# Altium integrated library Maxim Analog Filters.IntLib: 555 symbols (part 10 of 26)
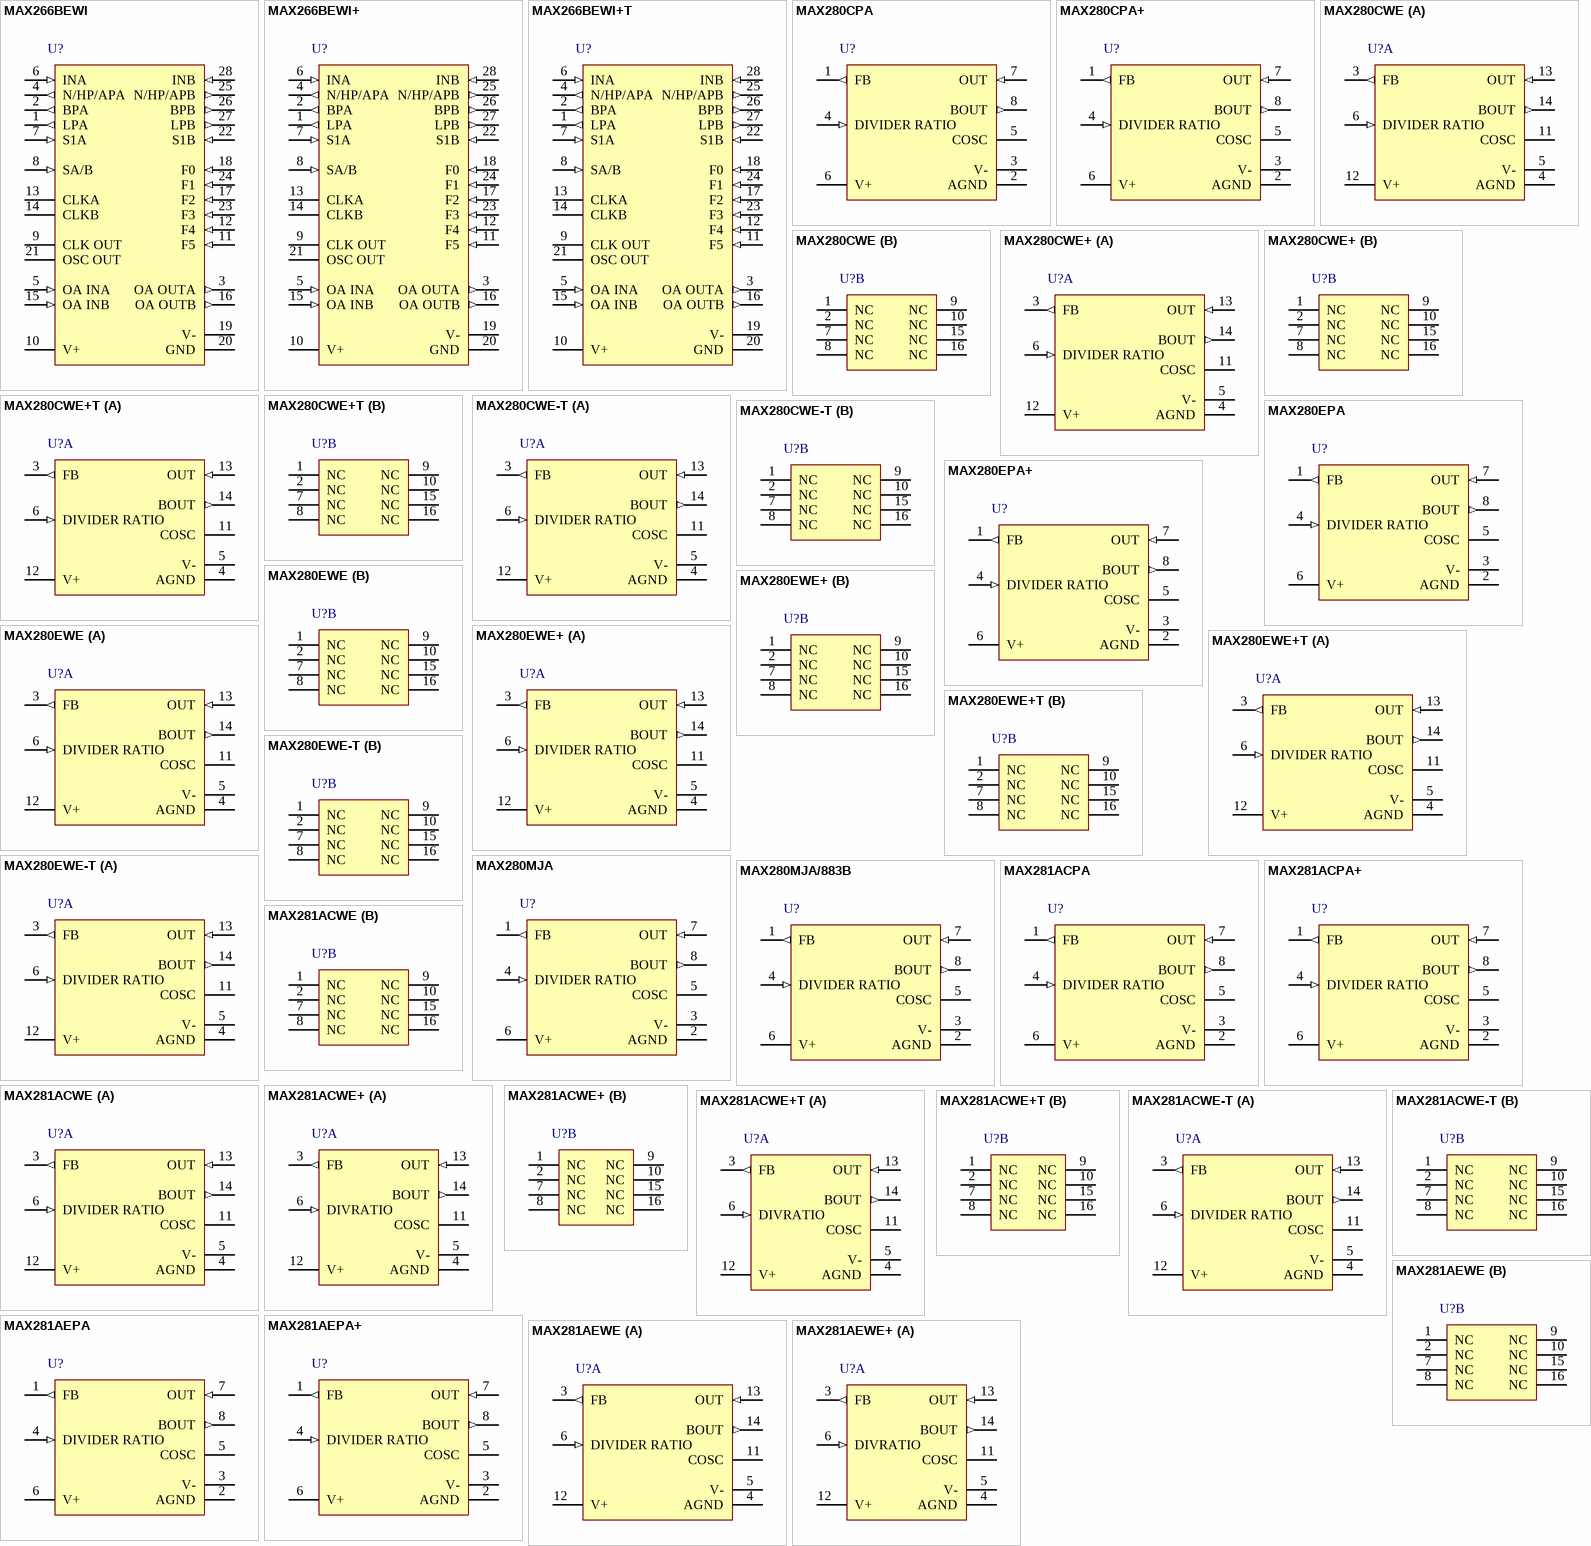
[diagram p26: symbols MAX266BEWI to MAX281AEWE+]

## MAX281ACWE+
designator U?
5th-Order Switched Capacitor Lowpass Filter, Bessel, Zero-Error with Zero DC-Offset, 0 to 70 degC, 16-Pin SOIC (W16+2), Pb-Free; Generic Part Number: MAX281; PartNumber: MAX281ACWE+; Filter Sections: 1; Order Per Filter Section: 5; Program Method: Clock; DatasheetVersion: Rev. 0; PackageVersion: Rev. F, 10/2012; PackageReference: W16+2; PackageDescription: 16-Pin Small-Outline IC, Wide (0.3in) (W16+2), Body 10.3 x 7.5 mm, Pitch 1.27 mm; Supplier 1: Digi-Key; Supplier Part Number 1: MAX281ACWE+-ND; Supplier 2: Mouser; Supplier Part Number 2: 700-MAX281ACWE; Filter Characteristic: Bessel; Filter Class: Switched Cap; Filter Type: Lowpass; RoHS: Pb-Free; Mounting Technology: Surface Mount; Code_JEDEC: MS013; ComponentLink1Description: Manufacturer URL; ComponentLink1URL: http://www.maximintegrated.com/; ComponentLink2Description: Datasheet; ComponentLink2URL: http://datasheets.maximintegrated.com/en/ds/MAX281.pdf; ComponentLink3Description: Package Specification; ComponentLink3URL: http://pdfserv.maximintegrated.com/package_dwgs/21-0042.PDF
footprint MAXM-W16+2_N (SOIC, 16-Leads, Body 10.3x7.5mm, Pitch 1.27mm, IPC Medium Density)
footprint MAXM-W16+2_L (SOIC, 16-Leads, Body 10.3x7.5mm, Pitch 1.27mm, IPC High Density)
footprint MAXM-W16+2_M (SOIC, 16-Leads, Body 10.3x7.5mm, Pitch 1.27mm, IPC Low Density)
part A pins: 3 FB (out) "External capacitor couples to the chip through this pin", 4 AGND (power) "Ground.Connect to system ground for dual-supply operation or mid-supply for single operation.This pin should be well bypassed using a large capacitor for single-supply operation", 5 V- (power) "Negative Supply Voltage", 6 DIVRATIO (in) "Strapped to select clock to cutoff ratio (external clock), or interal divider ratio (internal oscillator)", 11 COSC "Clock input pin for external clock applications. For internal clock operation, connect an external capacitor between this pin and V-", 12 V+ (power) "Positive Supply Voltage", 13 OUT (in) "Input to on-chip buffer amplifier", 14 BOUT (out) "Output of buffer amplifier"
part B pins: 1 NC, 2 NC, 7 NC, 8 NC, 9 NC, 10 NC, 15 NC, 16 NC

## MAX281ACWE+T
designator U?
5th-Order Switched Capacitor Lowpass Filter, Bessel, Zero-Error with Zero DC-Offset, 0 to 70 degC, 16-Pin SOIC (W16+2), Pb-Free, Tape and Reel; Generic Part Number: MAX281; PartNumber: MAX281ACWE+T; Filter Sections: 1; Order Per Filter Section: 5; Program Method: Clock; DatasheetVersion: Rev. 0; PackageVersion: Rev. F, 10/2012; PackageReference: W16+2; PackageDescription: 16-Pin Small-Outline IC, Wide (0.3in) (W16+2), Body 10.3 x 7.5 mm, Pitch 1.27 mm; Supplier 1: Digi-Key; Supplier Part Number 1: MAX281ACWE+T-ND; Supplier 2: Mouser; Supplier Part Number 2: 700-MAX281ACWET; Filter Characteristic: Bessel; Filter Class: Switched Cap; Filter Type: Lowpass; Packing: Tape and Reel; RoHS: Pb-Free; Mounting Technology: Surface Mount; Code_JEDEC: MS013; ComponentLink1Description: Manufacturer URL; ComponentLink1URL: http://www.maximintegrated.com/; ComponentLink2Description: Datasheet; ComponentLink2URL: http://datasheets.maximintegrated.com/en/ds/MAX281.pdf; ComponentLink3Description: Package Specification; ComponentLink3URL: http://pdfserv.maximintegrated.com/package_dwgs/21-0042.PDF
footprint MAXM-W16+2_N (SOIC, 16-Leads, Body 10.3x7.5mm, Pitch 1.27mm, IPC Medium Density)
footprint MAXM-W16+2_L (SOIC, 16-Leads, Body 10.3x7.5mm, Pitch 1.27mm, IPC High Density)
footprint MAXM-W16+2_M (SOIC, 16-Leads, Body 10.3x7.5mm, Pitch 1.27mm, IPC Low Density)
part A pins: 3 FB (out) "External capacitor couples to the chip through this pin", 4 AGND (power) "Ground.Connect to system ground for dual-supply operation or mid-supply for single operation.This pin should be well bypassed using a large capacitor for single-supply operation", 5 V- (power) "Negative Supply Voltage", 6 DIVRATIO (in) "Strapped to select clock to cutoff ratio (external clock), or interal divider ratio (internal oscillator)", 11 COSC "Clock input pin for external clock applications. For internal clock operation, connect an external capacitor between this pin and V-", 12 V+ (power) "Positive Supply Voltage", 13 OUT (in) "Input to on-chip buffer amplifier", 14 BOUT (out) "Output of buffer amplifier"
part B pins: 1 NC, 2 NC, 7 NC, 8 NC, 9 NC, 10 NC, 15 NC, 16 NC

## MAX281ACWE-T
designator U?
5th-Order Switched Capacitor Lowpass Filter, Bessel, Zero-Error with Zero DC-Offset, 0 to 70 degC, 16-Pin SOIC (W16-2), Tape and Reel; Generic Part Number: MAX281; PartNumber: MAX281ACWE-T; Filter Sections: 1; Order Per Filter Section: 5; Program Method: Clock; DatasheetVersion: Rev. 0; PackageVersion: Rev. F, 10/2012; PackageReference: W16-2; PackageDescription: 16-Pin Small-Outline IC, Wide (0.3in) (W16-2), Body 10.3 x 7.5 mm, Pitch 1.27 mm; Supplier 1: Mouser; Supplier Part Number 1: N/A; Filter Characteristic: Bessel; Filter Class: Switched Cap; Filter Type: Lowpass; Packing: Tape and Reel; Mounting Technology: Surface Mount; Code_JEDEC: MS013; ComponentLink1Description: Manufacturer URL; ComponentLink1URL: http://www.maximintegrated.com/; ComponentLink2Description: Datasheet; ComponentLink2URL: http://datasheets.maximintegrated.com/en/ds/MAX281.pdf; ComponentLink3Description: Package Specification; ComponentLink3URL: http://pdfserv.maximintegrated.com/package_dwgs/21-0042.PDF
footprint MAXM-W16-2_N (SOIC, 16-Leads, Body 10.3x7.5mm, Pitch 1.27mm, IPC Medium Density)
footprint MAXM-W16-2_L (SOIC, 16-Leads, Body 10.3x7.5mm, Pitch 1.27mm, IPC High Density)
footprint MAXM-W16-2_M (SOIC, 16-Leads, Body 10.3x7.5mm, Pitch 1.27mm, IPC Low Density)
part A pins: 3 FB (out) "External capacitor couples to the chip through this pin.", 4 AGND (power) "Ground. Connect to system ground for dual supply operation or mid-supply for single operarion. This pin should be well bypassed using a large capacitor for single supply operation.", 5 V- (power) "Negative supply volatage", 6 DIVIDER RATIO (in) "The oscillator frequency is divided by either 1, 2 or 4 depending upon the voltage on this pin. This in turn gives a clock to cutoff frequency ratio when tied to V+ of 100:1; when tied to GND of 200:1; and when tied to V- of (See Datasheet)", 11 COSC "Clock input pin for external clock applications.For internal clock operation connect an external capacitor between this pin and V-.", 12 V+ (power) "Positive supply volatage", 13 OUT (in) "Input to on-chip buffer amplifer", 14 BOUT (out) "Output of buffer amplifier"
part B pins: 1 NC, 2 NC, 7 NC, 8 NC, 9 NC, 10 NC, 15 NC, 16 NC

## MAX281AEPA
designator U?
5th-Order Switched Capacitor Lowpass Filter, Bessel, Zero-Error with Zero DC-Offset, -40 to 85 degC, 8-Pin DIP (P8-3); Generic Part Number: MAX281; PartNumber: MAX281AEPA; Filter Sections: 1; Order Per Filter Section: 5; Program Method: Clock; DatasheetVersion: Rev. 0; PackageVersion: Rev. E, 04/2011; PackageReference: P8-3; PackageDescription: 8-Pin Plastic Dual-In-Line, Narrow (0.3in) (P8-3), Body 9.375 x 6.985 mm, Pitch 2.54 mm; Supplier 1: Mouser; Supplier Part Number 1: N/A; Filter Characteristic: Bessel; Filter Class: Switched Cap; Filter Type: Lowpass; Mounting Technology: Through Hole; Code_JEDEC: MO-058AB; ComponentLink1Description: Manufacturer URL; ComponentLink1URL: http://www.maximintegrated.com/; ComponentLink2Description: Datasheet; ComponentLink2URL: http://datasheets.maximintegrated.com/en/ds/MAX281.pdf; ComponentLink3Description: Package Specification; ComponentLink3URL: http://pdfserv.maximintegrated.com/package_dwgs/21-0043.PDF
footprint MAXM-P8-3 (DIP, 8-Leads, Body 9.375x6.985mm, Pitch 2.54mm)
pins: 1 FB (out) "External capacitor couples to the chip through this pin", 2 AGND (power) "Ground. Connect to system ground for dual-supply operation or mid-supply for single operation. This pin should be well bypassed using a large capacitor for single-supply operation.", 3 V- (power) "Negative Supply Voltage", 4 DIVIDER RATIO (in) "Strapped to select clock to cutoff ratio (external clock), or internal divider ratio (internal oscillator)", 5 COSC "Clock input pin for external clock applications. For internal clock operation, connect an external capacitor between this pin and V-.", 6 V+ (power) "Positive Supply Voltage", 7 OUT (in) "Input to on-chip buffer amplifier", 8 BOUT (out) "Output of buffer amplifier"

## MAX281AEPA+
designator U?
5th-Order Switched Capacitor Lowpass Filter, Bessel, Zero-Error with Zero DC-Offset, -40 to 85 degC, 8-Pin DIP (P8+3), Pb-Free; Generic Part Number: MAX281; PartNumber: MAX281AEPA+; Filter Sections: 1; Order Per Filter Section: 5; Program Method: Clock; DatasheetVersion: Rev. 0; PackageVersion: Rev. E, 04/2011; PackageReference: P8+3; PackageDescription: 8-Pin Plastic Dual-In-Line, Narrow (0.3in) (P8+3), Body 9.375 x 6.985 mm, Pitch 2.54 mm; Supplier 1: Digi-Key; Supplier Part Number 1: MAX281AEPA+-ND; Supplier 2: Mouser; Supplier Part Number 2: 700-MAX281AEPA; Filter Characteristic: Bessel; Filter Class: Switched Cap; Filter Type: Lowpass; RoHS: Pb-Free; Mounting Technology: Through Hole; Code_JEDEC: MO-058AB; ComponentLink1Description: Manufacturer URL; ComponentLink1URL: http://www.maximintegrated.com/; ComponentLink2Description: Datasheet; ComponentLink2URL: http://datasheets.maximintegrated.com/en/ds/MAX281.pdf; ComponentLink3Description: Package Specification; ComponentLink3URL: http://pdfserv.maximintegrated.com/package_dwgs/21-0043.PDF
footprint MAXM-P8+3 (DIP, 8-Leads, Body 9.375x6.985mm, Pitch 2.54mm)
pins: 1 FB (out) "External capacitor couples to the chip through this pin", 2 AGND (power) "Ground. Connect to system ground for dual-supply operation or mid-supply for single operation. This pin should be well bypassed using a largr capacitor for single-supply operation.", 3 V- (power) "Negative Supply Voltage", 4 DIVIDER RATIO (in) "Strapped to select clock to cutoff ratio (external clock), or internal divider ratio (internal oscillator)", 5 COSC "Clock input pin for external clock applications. For internal clock operation, connect an external capacitor between this pin and V-.", 6 V+ (power) "Positive Supply Voltage", 7 OUT (in) "Input to on-chip buffer amplifier", 8 BOUT (out) "Output of buffer amplifier"

## MAX281AEWE
designator U?
5th-Order Switched Capacitor Lowpass Filter, Bessel, Zero-Error with Zero DC-Offset, -40 to 85 degC, 16-Pin SOIC (W16-2); Generic Part Number: MAX281; PartNumber: MAX281AEWE; Filter Sections: 1; Order Per Filter Section: 5; Program Method: Clock; DatasheetVersion: Rev. 0; PackageVersion: Rev. F, 10/2012; PackageReference: W16-2; PackageDescription: 16-Pin Small-Outline IC, Wide (0.3in) (W16-2), Body 10.3 x 7.5 mm, Pitch 1.27 mm; Supplier 1: Mouser; Supplier Part Number 1: N/A; Filter Characteristic: Bessel; Filter Class: Switched Cap; Filter Type: Lowpass; Mounting Technology: Surface Mount; Code_JEDEC: MS013; ComponentLink1Description: Manufacturer URL; ComponentLink1URL: http://www.maximintegrated.com/; ComponentLink2Description: Datasheet; ComponentLink2URL: http://datasheets.maximintegrated.com/en/ds/MAX281.pdf; ComponentLink3Description: Package Specification; ComponentLink3URL: http://pdfserv.maximintegrated.com/package_dwgs/21-0042.PDF
footprint MAXM-W16-2_N (SOIC, 16-Leads, Body 10.3x7.5mm, Pitch 1.27mm, IPC Medium Density)
footprint MAXM-W16-2_L (SOIC, 16-Leads, Body 10.3x7.5mm, Pitch 1.27mm, IPC High Density)
footprint MAXM-W16-2_M (SOIC, 16-Leads, Body 10.3x7.5mm, Pitch 1.27mm, IPC Low Density)
part A pins: 3 FB (out) "External capacitor couples to the chip through this pin.", 4 AGND (power) "Ground. Connect to system ground for dual supply operation or mid-supply for single operarion. This pin should be well bypassed using a large capacitor for single supply operation.", 5 V- (power) "Negative supply volatage", 6 DIVIDER RATIO (in) "The oscillator frequency is divided by either 1, 2 or 4 depending upon the voltage on this pin. This in turn gives a clock to cutoff frequency ratio when tied to V+ of 100:1; when tied to GND of 200:1; and when tied to V- of (See Datasheet)", 11 COSC "Clock input pin for external clock applications.For internal clock operation connect an external capacitor between this pin and V-.", 12 V+ (power) "Positive supply volatage", 13 OUT (in) "Input to on-chip buffer amplifer", 14 BOUT (out) "Output of buffer amplifier"
part B pins: 1 NC, 2 NC, 7 NC, 8 NC, 9 NC, 10 NC, 15 NC, 16 NC

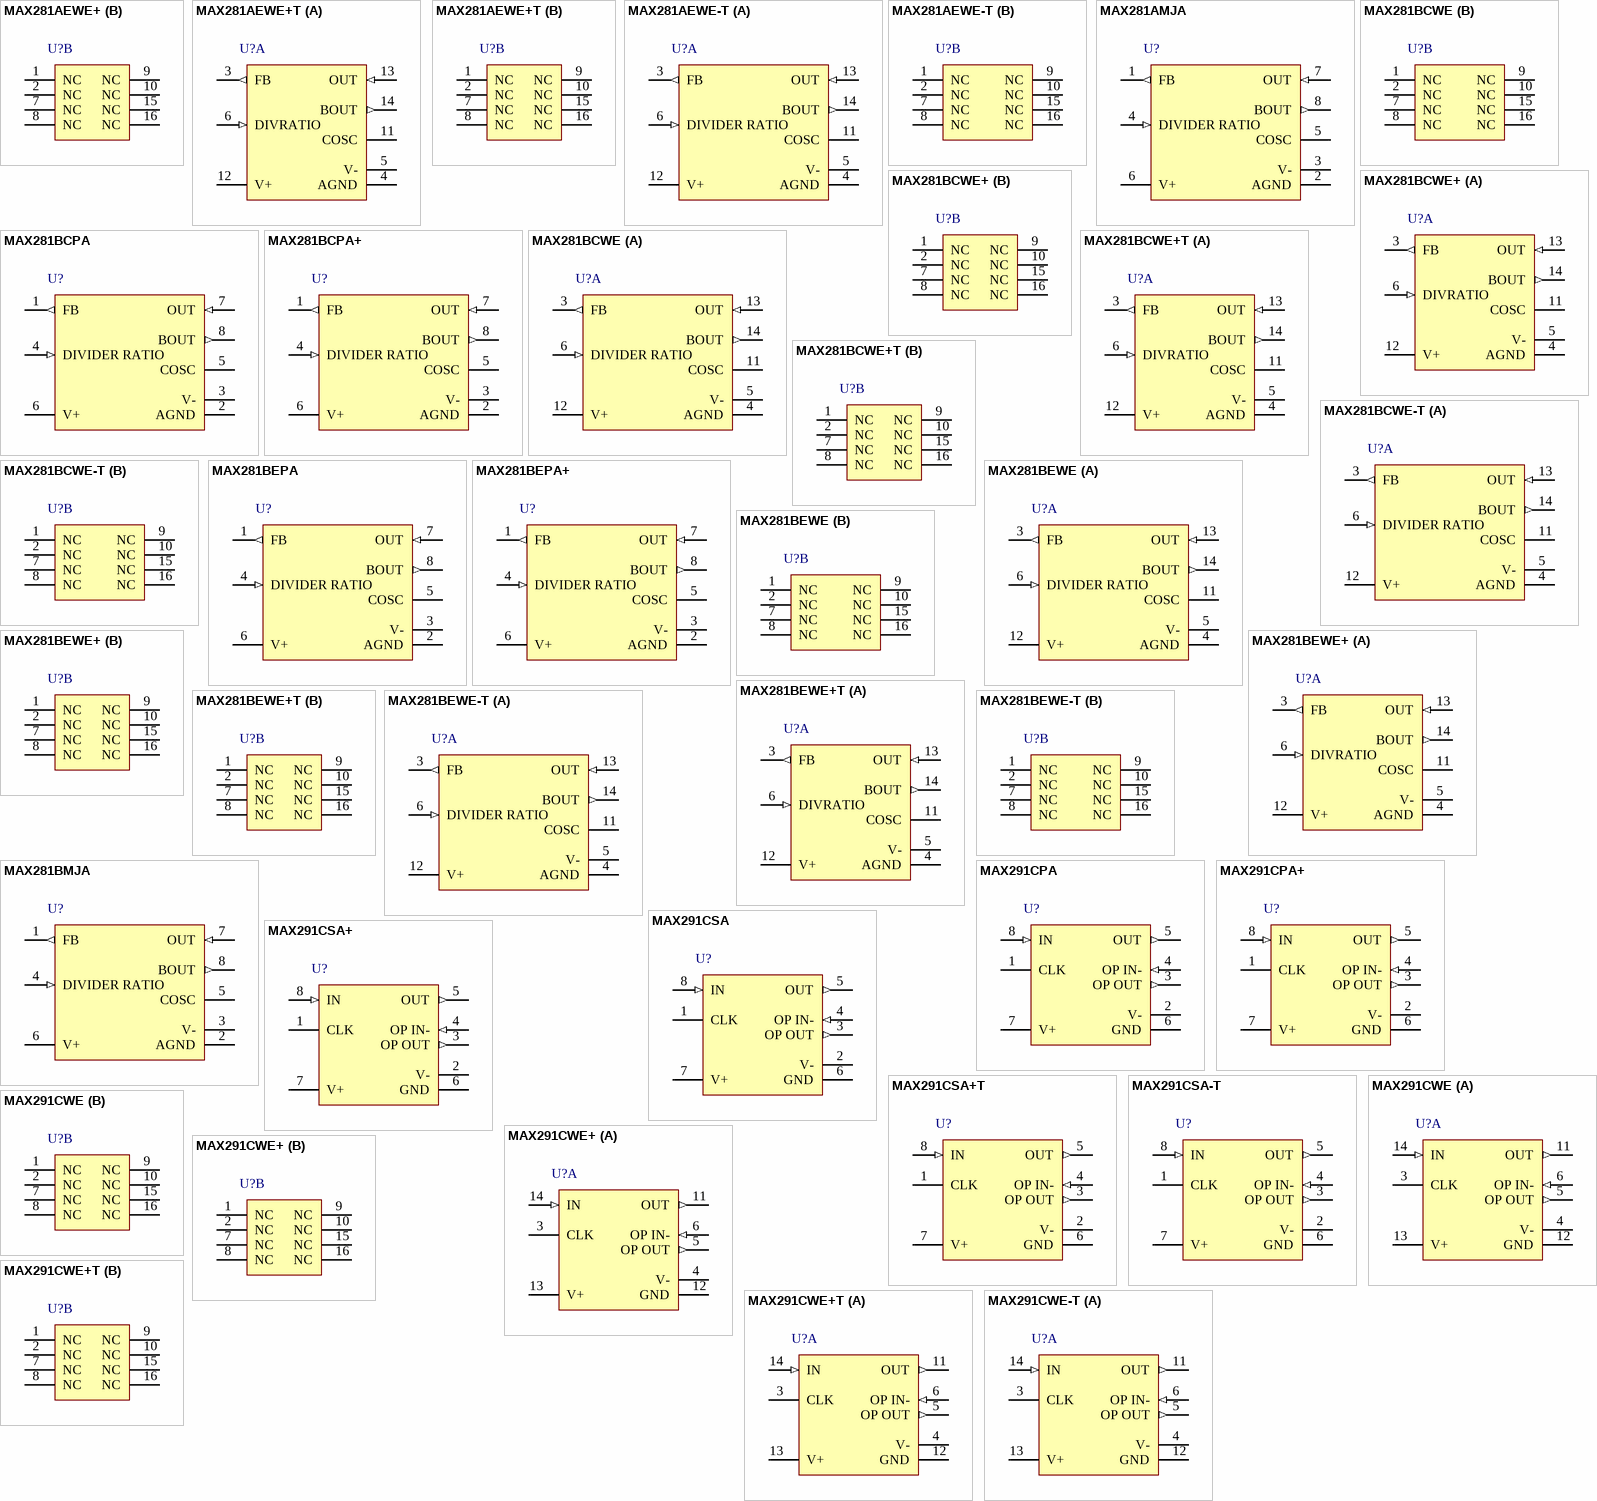
[diagram p7: symbols MAX281AEWE+ to MAX291CWE-T]

## MAX281AEWE+
designator U?
5th-Order Switched Capacitor Lowpass Filter, Bessel, Zero-Error with Zero DC-Offset, -40 to 85 degC, 16-Pin SOIC (W16+2), Pb-Free; Generic Part Number: MAX281; PartNumber: MAX281AEWE+; Filter Sections: 1; Order Per Filter Section: 5; Program Method: Clock; DatasheetVersion: Rev. 0; PackageVersion: Rev. F, 10/2012; PackageReference: W16+2; PackageDescription: 16-Pin Small-Outline IC, Wide (0.3in) (W16+2), Body 10.3 x 7.5 mm, Pitch 1.27 mm; Supplier 1: Digi-Key; Supplier Part Number 1: MAX281AEWE+-ND; Supplier 2: Farnell; Supplier Part Number 2: 1550454; Supplier 3: Newark; Supplier Part Number 3: 99K3153; Supplier 4: Mouser; Supplier Part Number 4: 700-MAX281AEWE; Filter Characteristic: Bessel; Filter Class: Switched Cap; Filter Type: Lowpass; RoHS: Pb-Free; Mounting Technology: Surface Mount; Code_JEDEC: MS013; ComponentLink1Description: Manufacturer URL; ComponentLink1URL: http://www.maximintegrated.com/; ComponentLink2Description: Datasheet; ComponentLink2URL: http://datasheets.maximintegrated.com/en/ds/MAX281.pdf; ComponentLink3Description: Package Specification; ComponentLink3URL: http://pdfserv.maximintegrated.com/package_dwgs/21-0042.PDF
footprint MAXM-W16+2_N (SOIC, 16-Leads, Body 10.3x7.5mm, Pitch 1.27mm, IPC Medium Density)
footprint MAXM-W16+2_L (SOIC, 16-Leads, Body 10.3x7.5mm, Pitch 1.27mm, IPC High Density)
footprint MAXM-W16+2_M (SOIC, 16-Leads, Body 10.3x7.5mm, Pitch 1.27mm, IPC Low Density)
part A pins: 3 FB (out) "External capacitor couples to the chip through this pin", 4 AGND (power) "Ground.Connect to system ground for dual-supply operation or mid-supply for single operation.This pin should be well bypassed using a large capacitor for single-supply operation", 5 V- (power) "Negative Supply Voltage", 6 DIVRATIO (in) "Strapped to select clock to cutoff ratio (external clock), or interal divider ratio (internal oscillator)", 11 COSC "Clock input pin for external clock applications. For internal clock operation, connect an external capacitor between this pin and V-", 12 V+ (power) "Positive Supply Voltage", 13 OUT (in) "Input to on-chip buffer amplifier", 14 BOUT (out) "Output of buffer amplifier"
part B pins: 1 NC, 2 NC, 7 NC, 8 NC, 9 NC, 10 NC, 15 NC, 16 NC

## MAX281AEWE+T
designator U?
5th-Order Switched Capacitor Lowpass Filter, Bessel, Zero-Error with Zero DC-Offset, -40 to 85 degC, 16-Pin SOIC (W16+2), Pb-Free, Tape and Reel; Generic Part Number: MAX281; PartNumber: MAX281AEWE+T; Filter Sections: 1; Order Per Filter Section: 5; Program Method: Clock; DatasheetVersion: Rev. 0; PackageVersion: Rev. F, 10/2012; PackageReference: W16+2; PackageDescription: 16-Pin Small-Outline IC, Wide (0.3in) (W16+2), Body 10.3 x 7.5 mm, Pitch 1.27 mm; Supplier 1: Digi-Key; Supplier Part Number 1: MAX281AEWE+T-ND; Supplier 2: Mouser; Supplier Part Number 2: 700-MAX281AEWET; Filter Characteristic: Bessel; Filter Class: Switched Cap; Filter Type: Lowpass; Packing: Tape and Reel; RoHS: Pb-Free; Mounting Technology: Surface Mount; Code_JEDEC: MS013; ComponentLink1Description: Manufacturer URL; ComponentLink1URL: http://www.maximintegrated.com/; ComponentLink2Description: Datasheet; ComponentLink2URL: http://datasheets.maximintegrated.com/en/ds/MAX281.pdf; ComponentLink3Description: Package Specification; ComponentLink3URL: http://pdfserv.maximintegrated.com/package_dwgs/21-0042.PDF
footprint MAXM-W16+2_N (SOIC, 16-Leads, Body 10.3x7.5mm, Pitch 1.27mm, IPC Medium Density)
footprint MAXM-W16+2_L (SOIC, 16-Leads, Body 10.3x7.5mm, Pitch 1.27mm, IPC High Density)
footprint MAXM-W16+2_M (SOIC, 16-Leads, Body 10.3x7.5mm, Pitch 1.27mm, IPC Low Density)
part A pins: 3 FB (out) "External capacitor couples to the chip through this pin", 4 AGND (power) "Ground.Connect to system ground for dual-supply operation or mid-supply for single operation.This pin should be well bypassed using a large capacitor for single-supply operation", 5 V- (power) "Negative Supply Voltage", 6 DIVRATIO (in) "Strapped to select clock to cutoff ratio (external clock), or interal divider ratio (internal oscillator)", 11 COSC "Clock input pin for external clock applications. For internal clock operation, connect an external capacitor between this pin and V-", 12 V+ (power) "Positive Supply Voltage", 13 OUT (in) "Input to on-chip buffer amplifier", 14 BOUT (out) "Output of buffer amplifier"
part B pins: 1 NC, 2 NC, 7 NC, 8 NC, 9 NC, 10 NC, 15 NC, 16 NC

## MAX281AEWE-T
designator U?
5th-Order Switched Capacitor Lowpass Filter, Bessel, Zero-Error with Zero DC-Offset, -40 to 85 degC, 16-Pin SOIC (W16-2), Tape and Reel; Generic Part Number: MAX281; PartNumber: MAX281AEWE-T; Filter Sections: 1; Order Per Filter Section: 5; Program Method: Clock; DatasheetVersion: Rev. 0; PackageVersion: Rev. F, 10/2012; PackageReference: W16-2; PackageDescription: 16-Pin Small-Outline IC, Wide (0.3in) (W16-2), Body 10.3 x 7.5 mm, Pitch 1.27 mm; Supplier 1: Mouser; Supplier Part Number 1: N/A; Filter Characteristic: Bessel; Filter Class: Switched Cap; Filter Type: Lowpass; Packing: Tape and Reel; Mounting Technology: Surface Mount; Code_JEDEC: MS013; ComponentLink1Description: Manufacturer URL; ComponentLink1URL: http://www.maximintegrated.com/; ComponentLink2Description: Datasheet; ComponentLink2URL: http://datasheets.maximintegrated.com/en/ds/MAX281.pdf; ComponentLink3Description: Package Specification; ComponentLink3URL: http://pdfserv.maximintegrated.com/package_dwgs/21-0042.PDF
footprint MAXM-W16-2_N (SOIC, 16-Leads, Body 10.3x7.5mm, Pitch 1.27mm, IPC Medium Density)
footprint MAXM-W16-2_L (SOIC, 16-Leads, Body 10.3x7.5mm, Pitch 1.27mm, IPC High Density)
footprint MAXM-W16-2_M (SOIC, 16-Leads, Body 10.3x7.5mm, Pitch 1.27mm, IPC Low Density)
part A pins: 3 FB (out) "External capacitor couples to the chip through this pin.", 4 AGND (power) "Ground. Connect to system ground for dual supply operation or mid-supply for single operarion. This pin should be well bypassed using a large capacitor for single supply operation.", 5 V- (power) "Negative supply volatage", 6 DIVIDER RATIO (in) "The oscillator frequency is divided by either 1, 2 or 4 depending upon the voltage on this pin. This in turn gives a clock to cutoff frequency ratio when tied to V+ of 100:1; when tied to GND of 200:1; and when tied to V- of (See Datasheet)", 11 COSC "Clock input pin for external clock applications.For internal clock operation connect an external capacitor between this pin and V-.", 12 V+ (power) "Positive supply volatage", 13 OUT (in) "Input to on-chip buffer amplifer", 14 BOUT (out) "Output of buffer amplifier"
part B pins: 1 NC, 2 NC, 7 NC, 8 NC, 9 NC, 10 NC, 15 NC, 16 NC

## MAX281AMJA
designator U?
5th-Order Switched Capacitor Lowpass Filter, Bessel, Zero-Error with Zero DC-Offset, -55 to 125 degC, 8-Pin DIP (J8-2); Generic Part Number: MAX281; PartNumber: MAX281AMJA; Filter Sections: 1; Order Per Filter Section: 5; Program Method: Clock; DatasheetVersion: Rev. 0; PackageVersion: Rev. B, 05/2011; PackageReference: J8-2; PackageDescription: 8-Pin Ceramic Dual-In-Line, Narrow (0.3in) (J8-2), Body 10.29 x 6.73 mm, Pitch 2.54 mm; Supplier 1: Mouser; Supplier Part Number 1: N/A; Filter Characteristic: Bessel; Filter Class: Switched Cap; Filter Type: Lowpass; Mounting Technology: Through Hole; ComponentLink1Description: Manufacturer URL; ComponentLink1URL: http://www.maximintegrated.com/; ComponentLink2Description: Datasheet; ComponentLink2URL: http://datasheets.maximintegrated.com/en/ds/MAX281.pdf; ComponentLink3Description: Package Specification; ComponentLink3URL: http://pdfserv.maximintegrated.com/package_dwgs/21-0045.PDF
footprint MAXM-J8-2 (DIP, 8-Leads, Body 10.29x6.73mm, Pitch 2.54mm)
pins: 1 FB (out) "External capacitor couples to the chip through this pin.", 2 AGND (power) "Ground. Connect to system ground for dual-supply operation or mid-supply for single operation. This pin should be well bypassed using a large capacitor for single-supply operation.", 3 V- (power) "Negative Supply Voltage", 4 DIVIDER RATIO (in) "Strapped to selsect clock to cutoff ratio (external clock), or internal ratio (internal oscillator).", 5 COSC "Clock input pin for external clock applications. For internal clock operation, connect an external capacitor between this pin and V-.", 6 V+ (power) "Positive Supply Voltage", 7 OUT (in) "Input to on-chip buffer amplifier", 8 BOUT (out) "Output of buffer amplifier"

## MAX281BCPA
designator U?
5th-Order Switched Capacitor Lowpass Filter, Bessel, Zero-Error with Zero DC-Offset, 0 to 70 degC, 8-Pin DIP (P8-3); Generic Part Number: MAX281; PartNumber: MAX281BCPA; Filter Sections: 1; Order Per Filter Section: 5; Program Method: Clock; DatasheetVersion: Rev. 0; PackageVersion: Rev. E, 04/2011; PackageReference: P8-3; PackageDescription: 8-Pin Plastic Dual-In-Line, Narrow (0.3in) (P8-3), Body 9.375 x 6.985 mm, Pitch 2.54 mm; Supplier 1: Mouser; Supplier Part Number 1: N/A; Filter Characteristic: Bessel; Filter Class: Switched Cap; Filter Type: Lowpass; Mounting Technology: Through Hole; Code_JEDEC: MO-058AB; ComponentLink1Description: Manufacturer URL; ComponentLink1URL: http://www.maximintegrated.com/; ComponentLink2Description: Datasheet; ComponentLink2URL: http://datasheets.maximintegrated.com/en/ds/MAX281.pdf; ComponentLink3Description: Package Specification; ComponentLink3URL: http://pdfserv.maximintegrated.com/package_dwgs/21-0043.PDF
footprint MAXM-P8-3 (DIP, 8-Leads, Body 9.375x6.985mm, Pitch 2.54mm)
pins: 1 FB (out) "External capacitor couples to the chip through this pin", 2 AGND (power) "Ground. Connect to system ground for dual-supply operation or mid-supply for single operation. This pin should be well bypassed using a large capacitor for single-supply operation.", 3 V- (power) "Negative Supply Voltage", 4 DIVIDER RATIO (in) "Strapped to select clock to cutoff ratio (external clock), or internal divider ratio (internal oscillator)", 5 COSC "Clock input pin for external clock applications. For internal clock operation, connect an external capacitor between this pin and V-.", 6 V+ (power) "Positive Supply Voltage", 7 OUT (in) "Input to on-chip buffer amplifier", 8 BOUT (out) "Output of buffer amplifier"

## MAX281BCPA+
designator U?
5th-Order Switched Capacitor Lowpass Filter, Bessel, Zero-Error with Zero DC-Offset, 0 to 70 degC, 8-Pin DIP (P8+3), Pb-Free; Generic Part Number: MAX281; PartNumber: MAX281BCPA+; Filter Sections: 1; Order Per Filter Section: 5; Program Method: Clock; DatasheetVersion: Rev. 0; PackageVersion: Rev. E, 04/2011; PackageReference: P8+3; PackageDescription: 8-Pin Plastic Dual-In-Line, Narrow (0.3in) (P8+3), Body 9.375 x 6.985 mm, Pitch 2.54 mm; Supplier 1: Digi-Key; Supplier Part Number 1: MAX281BCPA+-ND; Supplier 2: Mouser; Supplier Part Number 2: 700-MAX281BCPA; Filter Characteristic: Bessel; Filter Class: Switched Cap; Filter Type: Lowpass; RoHS: Pb-Free; Mounting Technology: Through Hole; Code_JEDEC: MO-058AB; ComponentLink1Description: Manufacturer URL; ComponentLink1URL: http://www.maximintegrated.com/; ComponentLink2Description: Datasheet; ComponentLink2URL: http://datasheets.maximintegrated.com/en/ds/MAX281.pdf; ComponentLink3Description: Package Specification; ComponentLink3URL: http://pdfserv.maximintegrated.com/package_dwgs/21-0043.PDF
footprint MAXM-P8+3 (DIP, 8-Leads, Body 9.375x6.985mm, Pitch 2.54mm)
pins: 1 FB (out) "External capacitor couples to the chip through this pin", 2 AGND (power) "Ground. Connect to system ground for dual-supply operation or mid-supply for single operation. This pin should be well bypassed using a largr capacitor for single-supply operation.", 3 V- (power) "Negative Supply Voltage", 4 DIVIDER RATIO (in) "Strapped to select clock to cutoff ratio (external clock), or internal divider ratio (internal oscillator)", 5 COSC "Clock input pin for external clock applications. For internal clock operation, connect an external capacitor between this pin and V-.", 6 V+ (power) "Positive Supply Voltage", 7 OUT (in) "Input to on-chip buffer amplifier", 8 BOUT (out) "Output of buffer amplifier"

## MAX281BCWE
designator U?
5th-Order Switched Capacitor Lowpass Filter, Bessel, Zero-Error with Zero DC-Offset, 0 to 70 degC, 16-Pin SOIC (W16-2); Generic Part Number: MAX281; PartNumber: MAX281BCWE; Filter Sections: 1; Order Per Filter Section: 5; Program Method: Clock; DatasheetVersion: Rev. 0; PackageVersion: Rev. F, 10/2012; PackageReference: W16-2; PackageDescription: 16-Pin Small-Outline IC, Wide (0.3in) (W16-2), Body 10.3 x 7.5 mm, Pitch 1.27 mm; Supplier 1: Mouser; Supplier Part Number 1: N/A; Filter Characteristic: Bessel; Filter Class: Switched Cap; Filter Type: Lowpass; Mounting Technology: Surface Mount; Code_JEDEC: MS013; ComponentLink1Description: Manufacturer URL; ComponentLink1URL: http://www.maximintegrated.com/; ComponentLink2Description: Datasheet; ComponentLink2URL: http://datasheets.maximintegrated.com/en/ds/MAX281.pdf; ComponentLink3Description: Package Specification; ComponentLink3URL: http://pdfserv.maximintegrated.com/package_dwgs/21-0042.PDF
footprint MAXM-W16-2_N (SOIC, 16-Leads, Body 10.3x7.5mm, Pitch 1.27mm, IPC Medium Density)
footprint MAXM-W16-2_L (SOIC, 16-Leads, Body 10.3x7.5mm, Pitch 1.27mm, IPC High Density)
footprint MAXM-W16-2_M (SOIC, 16-Leads, Body 10.3x7.5mm, Pitch 1.27mm, IPC Low Density)
part A pins: 3 FB (out) "External capacitor couples to the chip through this pin.", 4 AGND (power) "Ground. Connect to system ground for dual supply operation or mid-supply for single operarion. This pin should be well bypassed using a large capacitor for single supply operation.", 5 V- (power) "Negative supply volatage", 6 DIVIDER RATIO (in) "The oscillator frequency is divided by either 1, 2 or 4 depending upon the voltage on this pin. This in turn gives a clock to cutoff frequency ratio when tied to V+ of 100:1; when tied to GND of 200:1; and when tied to V- of (See Datasheet)", 11 COSC "Clock input pin for external clock applications.For internal clock operation connect an external capacitor between this pin and V-.", 12 V+ (power) "Positive supply volatage", 13 OUT (in) "Input to on-chip buffer amplifer", 14 BOUT (out) "Output of buffer amplifier"
part B pins: 1 NC, 2 NC, 7 NC, 8 NC, 9 NC, 10 NC, 15 NC, 16 NC

## MAX281BCWE+
designator U?
5th-Order Switched Capacitor Lowpass Filter, Bessel, Zero-Error with Zero DC-Offset, 0 to 70 degC, 16-Pin SOIC (W16+2), Pb-Free; Generic Part Number: MAX281; PartNumber: MAX281BCWE+; Filter Sections: 1; Order Per Filter Section: 5; Program Method: Clock; DatasheetVersion: Rev. 0; PackageVersion: Rev. F, 10/2012; PackageReference: W16+2; PackageDescription: 16-Pin Small-Outline IC, Wide (0.3in) (W16+2), Body 10.3 x 7.5 mm, Pitch 1.27 mm; Supplier 1: Digi-Key; Supplier Part Number 1: MAX281BCWE+-ND; Supplier 2: Mouser; Supplier Part Number 2: 700-MAX281BCWE; Filter Characteristic: Bessel; Filter Class: Switched Cap; Filter Type: Lowpass; RoHS: Pb-Free; Mounting Technology: Surface Mount; Code_JEDEC: MS013; ComponentLink1Description: Manufacturer URL; ComponentLink1URL: http://www.maximintegrated.com/; ComponentLink2Description: Datasheet; ComponentLink2URL: http://datasheets.maximintegrated.com/en/ds/MAX281.pdf; ComponentLink3Description: Package Specification; ComponentLink3URL: http://pdfserv.maximintegrated.com/package_dwgs/21-0042.PDF
footprint MAXM-W16+2_N (SOIC, 16-Leads, Body 10.3x7.5mm, Pitch 1.27mm, IPC Medium Density)
footprint MAXM-W16+2_L (SOIC, 16-Leads, Body 10.3x7.5mm, Pitch 1.27mm, IPC High Density)
footprint MAXM-W16+2_M (SOIC, 16-Leads, Body 10.3x7.5mm, Pitch 1.27mm, IPC Low Density)
part A pins: 3 FB (out) "External capacitor couples to the chip through this pin", 4 AGND (power) "Ground.Connect to system ground for dual-supply operation or mid-supply for single operation.This pin should be well bypassed using a large capacitor for single-supply operation", 5 V- (power) "Negative Supply Voltage", 6 DIVRATIO (in) "Strapped to select clock to cutoff ratio (external clock), or interal divider ratio (internal oscillator)", 11 COSC "Clock input pin for external clock applications. For internal clock operation, connect an external capacitor between this pin and V-", 12 V+ (power) "Positive Supply Voltage", 13 OUT (in) "Input to on-chip buffer amplifier", 14 BOUT (out) "Output of buffer amplifier"
part B pins: 1 NC, 2 NC, 7 NC, 8 NC, 9 NC, 10 NC, 15 NC, 16 NC

## MAX281BCWE+T
designator U?
5th-Order Switched Capacitor Lowpass Filter, Bessel, Zero-Error with Zero DC-Offset, 0 to 70 degC, 16-Pin SOIC (W16+2), Pb-Free, Tape and Reel; Generic Part Number: MAX281; PartNumber: MAX281BCWE+T; Filter Sections: 1; Order Per Filter Section: 5; Program Method: Clock; DatasheetVersion: Rev. 0; PackageVersion: Rev. F, 10/2012; PackageReference: W16+2; PackageDescription: 16-Pin Small-Outline IC, Wide (0.3in) (W16+2), Body 10.3 x 7.5 mm, Pitch 1.27 mm; Supplier 1: Digi-Key; Supplier Part Number 1: MAX281BCWE+T-ND; Supplier 2: Mouser; Supplier Part Number 2: 700-MAX281BCWET; Filter Characteristic: Bessel; Filter Class: Switched Cap; Filter Type: Lowpass; Packing: Tape and Reel; RoHS: Pb-Free; Mounting Technology: Surface Mount; Code_JEDEC: MS013; ComponentLink1Description: Manufacturer URL; ComponentLink1URL: http://www.maximintegrated.com/; ComponentLink2Description: Datasheet; ComponentLink2URL: http://datasheets.maximintegrated.com/en/ds/MAX281.pdf; ComponentLink3Description: Package Specification; ComponentLink3URL: http://pdfserv.maximintegrated.com/package_dwgs/21-0042.PDF
footprint MAXM-W16+2_N (SOIC, 16-Leads, Body 10.3x7.5mm, Pitch 1.27mm, IPC Medium Density)
footprint MAXM-W16+2_L (SOIC, 16-Leads, Body 10.3x7.5mm, Pitch 1.27mm, IPC High Density)
footprint MAXM-W16+2_M (SOIC, 16-Leads, Body 10.3x7.5mm, Pitch 1.27mm, IPC Low Density)
part A pins: 3 FB (out) "External capacitor couples to the chip through this pin", 4 AGND (power) "Ground.Connect to system ground for dual-supply operation or mid-supply for single operation.This pin should be well bypassed using a large capacitor for single-supply operation", 5 V- (power) "Negative Supply Voltage", 6 DIVRATIO (in) "Strapped to select clock to cutoff ratio (external clock), or interal divider ratio (internal oscillator)", 11 COSC "Clock input pin for external clock applications. For internal clock operation, connect an external capacitor between this pin and V-", 12 V+ (power) "Positive Supply Voltage", 13 OUT (in) "Input to on-chip buffer amplifier", 14 BOUT (out) "Output of buffer amplifier"
part B pins: 1 NC, 2 NC, 7 NC, 8 NC, 9 NC, 10 NC, 15 NC, 16 NC

## MAX281BCWE-T
designator U?
5th-Order Switched Capacitor Lowpass Filter, Bessel, Zero-Error with Zero DC-Offset, 0 to 70 degC, 16-Pin SOIC (W16-2), Tape and Reel; Generic Part Number: MAX281; PartNumber: MAX281BCWE-T; Filter Sections: 1; Order Per Filter Section: 5; Program Method: Clock; DatasheetVersion: Rev. 0; PackageVersion: Rev. F, 10/2012; PackageReference: W16-2; PackageDescription: 16-Pin Small-Outline IC, Wide (0.3in) (W16-2), Body 10.3 x 7.5 mm, Pitch 1.27 mm; Supplier 1: Mouser; Supplier Part Number 1: N/A; Filter Characteristic: Bessel; Filter Class: Switched Cap; Filter Type: Lowpass; Packing: Tape and Reel; Mounting Technology: Surface Mount; Code_JEDEC: MS013; ComponentLink1Description: Manufacturer URL; ComponentLink1URL: http://www.maximintegrated.com/; ComponentLink2Description: Datasheet; ComponentLink2URL: http://datasheets.maximintegrated.com/en/ds/MAX281.pdf; ComponentLink3Description: Package Specification; ComponentLink3URL: http://pdfserv.maximintegrated.com/package_dwgs/21-0042.PDF
footprint MAXM-W16-2_N (SOIC, 16-Leads, Body 10.3x7.5mm, Pitch 1.27mm, IPC Medium Density)
footprint MAXM-W16-2_L (SOIC, 16-Leads, Body 10.3x7.5mm, Pitch 1.27mm, IPC High Density)
footprint MAXM-W16-2_M (SOIC, 16-Leads, Body 10.3x7.5mm, Pitch 1.27mm, IPC Low Density)
part A pins: 3 FB (out) "External capacitor couples to the chip through this pin.", 4 AGND (power) "Ground. Connect to system ground for dual supply operation or mid-supply for single operarion. This pin should be well bypassed using a large capacitor for single supply operation.", 5 V- (power) "Negative supply volatage", 6 DIVIDER RATIO (in) "The oscillator frequency is divided by either 1, 2 or 4 depending upon the voltage on this pin. This in turn gives a clock to cutoff frequency ratio when tied to V+ of 100:1; when tied to GND of 200:1; and when tied to V- of (See Datasheet)", 11 COSC "Clock input pin for external clock applications.For internal clock operation connect an external capacitor between this pin and V-.", 12 V+ (power) "Positive supply volatage", 13 OUT (in) "Input to on-chip buffer amplifer", 14 BOUT (out) "Output of buffer amplifier"
part B pins: 1 NC, 2 NC, 7 NC, 8 NC, 9 NC, 10 NC, 15 NC, 16 NC

## MAX281BEPA
designator U?
5th-Order Switched Capacitor Lowpass Filter, Bessel, Zero-Error with Zero DC-Offset, -40 to 85 degC, 8-Pin DIP (P8-3); Generic Part Number: MAX281; PartNumber: MAX281BEPA; Filter Sections: 1; Order Per Filter Section: 5; Program Method: Clock; DatasheetVersion: Rev. 0; PackageVersion: Rev. E, 04/2011; PackageReference: P8-3; PackageDescription: 8-Pin Plastic Dual-In-Line, Narrow (0.3in) (P8-3), Body 9.375 x 6.985 mm, Pitch 2.54 mm; Supplier 1: Mouser; Supplier Part Number 1: N/A; Filter Characteristic: Bessel; Filter Class: Switched Cap; Filter Type: Lowpass; Mounting Technology: Through Hole; Code_JEDEC: MO-058AB; ComponentLink1Description: Manufacturer URL; ComponentLink1URL: http://www.maximintegrated.com/; ComponentLink2Description: Datasheet; ComponentLink2URL: http://datasheets.maximintegrated.com/en/ds/MAX281.pdf; ComponentLink3Description: Package Specification; ComponentLink3URL: http://pdfserv.maximintegrated.com/package_dwgs/21-0043.PDF
footprint MAXM-P8-3 (DIP, 8-Leads, Body 9.375x6.985mm, Pitch 2.54mm)
pins: 1 FB (out) "External capacitor couples to the chip through this pin", 2 AGND (power) "Ground. Connect to system ground for dual-supply operation or mid-supply for single operation. This pin should be well bypassed using a large capacitor for single-supply operation.", 3 V- (power) "Negative Supply Voltage", 4 DIVIDER RATIO (in) "Strapped to select clock to cutoff ratio (external clock), or internal divider ratio (internal oscillator)", 5 COSC "Clock input pin for external clock applications. For internal clock operation, connect an external capacitor between this pin and V-.", 6 V+ (power) "Positive Supply Voltage", 7 OUT (in) "Input to on-chip buffer amplifier", 8 BOUT (out) "Output of buffer amplifier"

## MAX281BEPA+
designator U?
5th-Order Switched Capacitor Lowpass Filter, Bessel, Zero-Error with Zero DC-Offset, -40 to 85 degC, 8-Pin DIP (P8+3), Pb-Free; Generic Part Number: MAX281; PartNumber: MAX281BEPA+; Filter Sections: 1; Order Per Filter Section: 5; Program Method: Clock; DatasheetVersion: Rev. 0; PackageVersion: Rev. E, 04/2011; PackageReference: P8+3; PackageDescription: 8-Pin Plastic Dual-In-Line, Narrow (0.3in) (P8+3), Body 9.375 x 6.985 mm, Pitch 2.54 mm; Supplier 1: Digi-Key; Supplier Part Number 1: MAX281BEPA+-ND; Supplier 2: Mouser; Supplier Part Number 2: 700-MAX281BEPA; Filter Characteristic: Bessel; Filter Class: Switched Cap; Filter Type: Lowpass; RoHS: Pb-Free; Mounting Technology: Through Hole; Code_JEDEC: MO-058AB; ComponentLink1Description: Manufacturer URL; ComponentLink1URL: http://www.maximintegrated.com/; ComponentLink2Description: Datasheet; ComponentLink2URL: http://datasheets.maximintegrated.com/en/ds/MAX281.pdf; ComponentLink3Description: Package Specification; ComponentLink3URL: http://pdfserv.maximintegrated.com/package_dwgs/21-0043.PDF
footprint MAXM-P8+3 (DIP, 8-Leads, Body 9.375x6.985mm, Pitch 2.54mm)
pins: 1 FB (out) "External capacitor couples to the chip through this pin", 2 AGND (power) "Ground. Connect to system ground for dual-supply operation or mid-supply for single operation. This pin should be well bypassed using a largr capacitor for single-supply operation.", 3 V- (power) "Negative Supply Voltage", 4 DIVIDER RATIO (in) "Strapped to select clock to cutoff ratio (external clock), or internal divider ratio (internal oscillator)", 5 COSC "Clock input pin for external clock applications. For internal clock operation, connect an external capacitor between this pin and V-.", 6 V+ (power) "Positive Supply Voltage", 7 OUT (in) "Input to on-chip buffer amplifier", 8 BOUT (out) "Output of buffer amplifier"

## MAX281BEWE
designator U?
5th-Order Switched Capacitor Lowpass Filter, Bessel, Zero-Error with Zero DC-Offset, -40 to 85 degC, 16-Pin SOIC (W16-2); Generic Part Number: MAX281; PartNumber: MAX281BEWE; Filter Sections: 1; Order Per Filter Section: 5; Program Method: Clock; DatasheetVersion: Rev. 0; PackageVersion: Rev. F, 10/2012; PackageReference: W16-2; PackageDescription: 16-Pin Small-Outline IC, Wide (0.3in) (W16-2), Body 10.3 x 7.5 mm, Pitch 1.27 mm; Supplier 1: Mouser; Supplier Part Number 1: N/A; Filter Characteristic: Bessel; Filter Class: Switched Cap; Filter Type: Lowpass; Mounting Technology: Surface Mount; Code_JEDEC: MS013; ComponentLink1Description: Manufacturer URL; ComponentLink1URL: http://www.maximintegrated.com/; ComponentLink2Description: Datasheet; ComponentLink2URL: http://datasheets.maximintegrated.com/en/ds/MAX281.pdf; ComponentLink3Description: Package Specification; ComponentLink3URL: http://pdfserv.maximintegrated.com/package_dwgs/21-0042.PDF
footprint MAXM-W16-2_N (SOIC, 16-Leads, Body 10.3x7.5mm, Pitch 1.27mm, IPC Medium Density)
footprint MAXM-W16-2_L (SOIC, 16-Leads, Body 10.3x7.5mm, Pitch 1.27mm, IPC High Density)
footprint MAXM-W16-2_M (SOIC, 16-Leads, Body 10.3x7.5mm, Pitch 1.27mm, IPC Low Density)
part A pins: 3 FB (out) "External capacitor couples to the chip through this pin.", 4 AGND (power) "Ground. Connect to system ground for dual supply operation or mid-supply for single operarion. This pin should be well bypassed using a large capacitor for single supply operation.", 5 V- (power) "Negative supply volatage", 6 DIVIDER RATIO (in) "The oscillator frequency is divided by either 1, 2 or 4 depending upon the voltage on this pin. This in turn gives a clock to cutoff frequency ratio when tied to V+ of 100:1; when tied to GND of 200:1; and when tied to V- of (See Datasheet)", 11 COSC "Clock input pin for external clock applications.For internal clock operation connect an external capacitor between this pin and V-.", 12 V+ (power) "Positive supply volatage", 13 OUT (in) "Input to on-chip buffer amplifer", 14 BOUT (out) "Output of buffer amplifier"
part B pins: 1 NC, 2 NC, 7 NC, 8 NC, 9 NC, 10 NC, 15 NC, 16 NC

## MAX281BEWE+
designator U?
5th-Order Switched Capacitor Lowpass Filter, Bessel, Zero-Error with Zero DC-Offset, -40 to 85 degC, 16-Pin SOIC (W16+2), Pb-Free; Generic Part Number: MAX281; PartNumber: MAX281BEWE+; Filter Sections: 1; Order Per Filter Section: 5; Program Method: Clock; DatasheetVersion: Rev. 0; PackageVersion: Rev. F, 10/2012; PackageReference: W16+2; PackageDescription: 16-Pin Small-Outline IC, Wide (0.3in) (W16+2), Body 10.3 x 7.5 mm, Pitch 1.27 mm; Supplier 1: Digi-Key; Supplier Part Number 1: MAX281BEWE+-ND; Supplier 2: Mouser; Supplier Part Number 2: 700-MAX281BEWE; Filter Characteristic: Bessel; Filter Class: Switched Cap; Filter Type: Lowpass; RoHS: Pb-Free; Mounting Technology: Surface Mount; Code_JEDEC: MS013; ComponentLink1Description: Manufacturer URL; ComponentLink1URL: http://www.maximintegrated.com/; ComponentLink2Description: Datasheet; ComponentLink2URL: http://datasheets.maximintegrated.com/en/ds/MAX281.pdf; ComponentLink3Description: Package Specification; ComponentLink3URL: http://pdfserv.maximintegrated.com/package_dwgs/21-0042.PDF
footprint MAXM-W16+2_N (SOIC, 16-Leads, Body 10.3x7.5mm, Pitch 1.27mm, IPC Medium Density)
footprint MAXM-W16+2_L (SOIC, 16-Leads, Body 10.3x7.5mm, Pitch 1.27mm, IPC High Density)
footprint MAXM-W16+2_M (SOIC, 16-Leads, Body 10.3x7.5mm, Pitch 1.27mm, IPC Low Density)
part A pins: 3 FB (out) "External capacitor couples to the chip through this pin", 4 AGND (power) "Ground.Connect to system ground for dual-supply operation or mid-supply for single operation.This pin should be well bypassed using a large capacitor for single-supply operation", 5 V- (power) "Negative Supply Voltage", 6 DIVRATIO (in) "Strapped to select clock to cutoff ratio (external clock), or interal divider ratio (internal oscillator)", 11 COSC "Clock input pin for external clock applications. For internal clock operation, connect an external capacitor between this pin and V-", 12 V+ (power) "Positive Supply Voltage", 13 OUT (in) "Input to on-chip buffer amplifier", 14 BOUT (out) "Output of buffer amplifier"
part B pins: 1 NC, 2 NC, 7 NC, 8 NC, 9 NC, 10 NC, 15 NC, 16 NC

## MAX281BEWE+T
designator U?
5th-Order Switched Capacitor Lowpass Filter, Bessel, Zero-Error with Zero DC-Offset, -40 to 85 degC, 16-Pin SOIC (W16+2), Pb-Free, Tape and Reel; Generic Part Number: MAX281; PartNumber: MAX281BEWE+T; Filter Sections: 1; Order Per Filter Section: 5; Program Method: Clock; DatasheetVersion: Rev. 0; PackageVersion: Rev. F, 10/2012; PackageReference: W16+2; PackageDescription: 16-Pin Small-Outline IC, Wide (0.3in) (W16+2), Body 10.3 x 7.5 mm, Pitch 1.27 mm; Supplier 1: Digi-Key; Supplier Part Number 1: MAX281BEWE+T-ND; Supplier 2: Mouser; Supplier Part Number 2: 700-MAX281BEWET; Filter Characteristic: Bessel; Filter Class: Switched Cap; Filter Type: Lowpass; Packing: Tape and Reel; RoHS: Pb-Free; Mounting Technology: Surface Mount; Code_JEDEC: MS013; ComponentLink1Description: Manufacturer URL; ComponentLink1URL: http://www.maximintegrated.com/; ComponentLink2Description: Datasheet; ComponentLink2URL: http://datasheets.maximintegrated.com/en/ds/MAX281.pdf; ComponentLink3Description: Package Specification; ComponentLink3URL: http://pdfserv.maximintegrated.com/package_dwgs/21-0042.PDF
footprint MAXM-W16+2_N (SOIC, 16-Leads, Body 10.3x7.5mm, Pitch 1.27mm, IPC Medium Density)
footprint MAXM-W16+2_L (SOIC, 16-Leads, Body 10.3x7.5mm, Pitch 1.27mm, IPC High Density)
footprint MAXM-W16+2_M (SOIC, 16-Leads, Body 10.3x7.5mm, Pitch 1.27mm, IPC Low Density)
part A pins: 3 FB (out) "External capacitor couples to the chip through this pin", 4 AGND (power) "Ground.Connect to system ground for dual-supply operation or mid-supply for single operation.This pin should be well bypassed using a large capacitor for single-supply operation", 5 V- (power) "Negative Supply Voltage", 6 DIVRATIO (in) "Strapped to select clock to cutoff ratio (external clock), or interal divider ratio (internal oscillator)", 11 COSC "Clock input pin for external clock applications. For internal clock operation, connect an external capacitor between this pin and V-", 12 V+ (power) "Positive Supply Voltage", 13 OUT (in) "Input to on-chip buffer amplifier", 14 BOUT (out) "Output of buffer amplifier"
part B pins: 1 NC, 2 NC, 7 NC, 8 NC, 9 NC, 10 NC, 15 NC, 16 NC

## MAX281BEWE-T
designator U?
5th-Order Switched Capacitor Lowpass Filter, Bessel, Zero-Error with Zero DC-Offset, -40 to 85 degC, 16-Pin SOIC (W16-2), Tape and Reel; Generic Part Number: MAX281; PartNumber: MAX281BEWE-T; Filter Sections: 1; Order Per Filter Section: 5; Program Method: Clock; DatasheetVersion: Rev. 0; PackageVersion: Rev. F, 10/2012; PackageReference: W16-2; PackageDescription: 16-Pin Small-Outline IC, Wide (0.3in) (W16-2), Body 10.3 x 7.5 mm, Pitch 1.27 mm; Supplier 1: Mouser; Supplier Part Number 1: N/A; Filter Characteristic: Bessel; Filter Class: Switched Cap; Filter Type: Lowpass; Packing: Tape and Reel; Mounting Technology: Surface Mount; Code_JEDEC: MS013; ComponentLink1Description: Manufacturer URL; ComponentLink1URL: http://www.maximintegrated.com/; ComponentLink2Description: Datasheet; ComponentLink2URL: http://datasheets.maximintegrated.com/en/ds/MAX281.pdf; ComponentLink3Description: Package Specification; ComponentLink3URL: http://pdfserv.maximintegrated.com/package_dwgs/21-0042.PDF
footprint MAXM-W16-2_N (SOIC, 16-Leads, Body 10.3x7.5mm, Pitch 1.27mm, IPC Medium Density)
footprint MAXM-W16-2_L (SOIC, 16-Leads, Body 10.3x7.5mm, Pitch 1.27mm, IPC High Density)
footprint MAXM-W16-2_M (SOIC, 16-Leads, Body 10.3x7.5mm, Pitch 1.27mm, IPC Low Density)
part A pins: 3 FB (out) "External capacitor couples to the chip through this pin.", 4 AGND (power) "Ground. Connect to system ground for dual supply operation or mid-supply for single operarion. This pin should be well bypassed using a large capacitor for single supply operation.", 5 V- (power) "Negative supply volatage", 6 DIVIDER RATIO (in) "The oscillator frequency is divided by either 1, 2 or 4 depending upon the voltage on this pin. This in turn gives a clock to cutoff frequency ratio when tied to V+ of 100:1; when tied to GND of 200:1; and when tied to V- of (See Datasheet)", 11 COSC "Clock input pin for external clock applications.For internal clock operation connect an external capacitor between this pin and V-.", 12 V+ (power) "Positive supply volatage", 13 OUT (in) "Input to on-chip buffer amplifer", 14 BOUT (out) "Output of buffer amplifier"
part B pins: 1 NC, 2 NC, 7 NC, 8 NC, 9 NC, 10 NC, 15 NC, 16 NC

## MAX281BMJA
designator U?
5th-Order Switched Capacitor Lowpass Filter, Bessel, Zero-Error with Zero DC-Offset, -55 to 125 degC, 8-Pin DIP (J8-2); Generic Part Number: MAX281; PartNumber: MAX281BMJA; Filter Sections: 1; Order Per Filter Section: 5; Program Method: Clock; DatasheetVersion: Rev. 0; PackageVersion: Rev. B, 05/2011; PackageReference: J8-2; PackageDescription: 8-Pin Ceramic Dual-In-Line, Narrow (0.3in) (J8-2), Body 10.29 x 6.73 mm, Pitch 2.54 mm; Supplier 1: Mouser; Supplier Part Number 1: N/A; Filter Characteristic: Bessel; Filter Class: Switched Cap; Filter Type: Lowpass; Mounting Technology: Through Hole; ComponentLink1Description: Manufacturer URL; ComponentLink1URL: http://www.maximintegrated.com/; ComponentLink2Description: Datasheet; ComponentLink2URL: http://datasheets.maximintegrated.com/en/ds/MAX281.pdf; ComponentLink3Description: Package Specification; ComponentLink3URL: http://pdfserv.maximintegrated.com/package_dwgs/21-0045.PDF
footprint MAXM-J8-2 (DIP, 8-Leads, Body 10.29x6.73mm, Pitch 2.54mm)
pins: 1 FB (out) "External capacitor couples to the chip through this pin.", 2 AGND (power) "Ground. Connect to system ground for dual-supply operation or mid-supply for single operation. This pin should be well bypassed using a large capacitor for single-supply operation.", 3 V- (power) "Negative Supply Voltage", 4 DIVIDER RATIO (in) "Strapped to selsect clock to cutoff ratio (external clock), or internal ratio (internal oscillator).", 5 COSC "Clock input pin for external clock applications. For internal clock operation, connect an external capacitor between this pin and V-.", 6 V+ (power) "Positive Supply Voltage", 7 OUT (in) "Input to on-chip buffer amplifier", 8 BOUT (out) "Output of buffer amplifier"

## MAX291CPA
designator U?
8th-Order Switched Capacitor Lowpass Filter, Butterworth, 0 to 70 degC, 8-Pin DIP (P8-2); Generic Part Number: MAX291; PartNumber: MAX291CPA; Filter Sections: 1; Order Per Filter Section: 8; Program Method: Clock; DatasheetVersion: Rev. 5; PackageVersion: Rev. E, 04/2011; PackageReference: P8-2; PackageDescription: 8-Pin Plastic Dual-In-Line, Narrow (0.3in) (P8-2), Body 9.375 x 6.985 mm, Pitch 2.54 mm; Supplier 1: Mouser; Supplier Part Number 1: N/A; Filter Characteristic: Butterworth; Filter Class: Switched Cap; Filter Type: Lowpass; Mounting Technology: Through Hole; Code_JEDEC: MS001-XX; ComponentLink1Description: Manufacturer URL; ComponentLink1URL: http://www.maximintegrated.com/; ComponentLink2Description: Datasheet; ComponentLink2URL: http://datasheets.maximintegrated.com/en/ds/MAX291-MAX296.pdf; ComponentLink3Description: Package Specification; ComponentLink3URL: http://pdfserv.maximintegrated.com/package_dwgs/21-0043.PDF
footprint MAXM-P8-2 (DIP, 8-Leads, Body 9.375x6.985mm, Pitch 2.54mm)
pins: 1 CLK "Clock Input. Use internal or external clock.", 2 V- (power) "Negative Supply pin. Dual supplies: -2.375V to -5.500V. Single supplies: V- = 0V.", 3 OP OUT (out) "Uncommitted Op-Amp Output", 4 OP IN- (in) "Inverting Input to the uncommitted op amp. The noninverting op amp is internally tied to ground.", 5 OUT (out) "Filter Output", 6 GND (power) "Ground. In single-supply operation, GND must be biased to the mid-supply voltage level.", 7 V+ (power) "Positive Supply pin. Dual supplies: +2.375V to +5.500V. Single supplies: +4.75V to +11.0V.", 8 IN (in) "Filter Input"